# EAGLE library part 65100516121 (library Wurth_Connectors_WR-USB)
WR-COM Mini USB 2.0 Type B SMT Horizontal 5 Contacts Kind Properties Durability:1 500 Mating cycles Quality Class:1 500 Mating cycles Connector Type:Mini USB Gender:Receptacle Type:Horizontal General Information Operating Temperature:-40up to +105 °C Compliance:RoHS Electrical Properties IR 1:1A Working Voltage:30V (AC) Withstanding Voltage:750V (AC) Contact Resistance:20 mΩ Material Properties Insulator Material:LCP Insulator Flammability Rating:UL94 V-0 Color:Black Cover Material:Brass Cover Plating:Nickel Contact Material:Copper Alloy Contact Plating: Selective Gold Contact Type:Stamped Shielding Material:Brass Shielding Plating:Nickel <https://www.we-online.com/catalog/media/o33005v209%20Family_WR-COM_65100516121.jpg> Details see: https://www.we-online.com/catalog/en/COM_SMT_MINI_TYPE_B_HORIZONTAL/ Updated by Yingchun, Shan 2020-01-16 2020 (C) Würth Elektronik
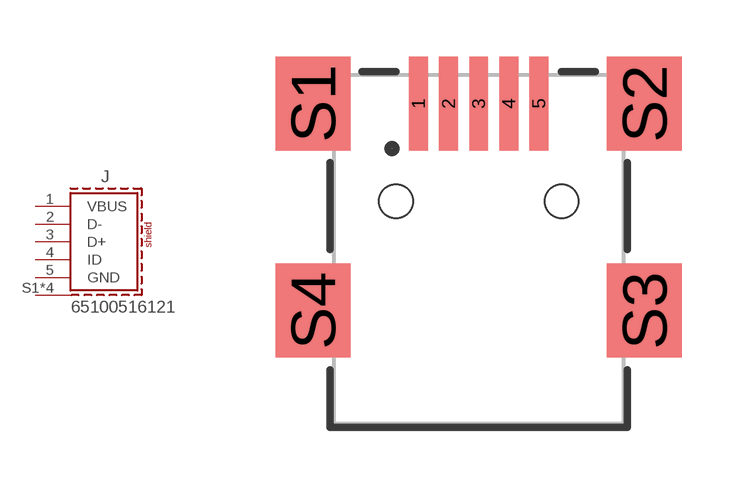
[diagram p15: symbol with the pads of 65100516121; footprint 65100516121]

Designator prefix J

## 65100516121 (APPLICATION: Micro USB 2.0; DATASHEET-URL: https://www.we-online.com/catalog/datasheet/65100516121.pdf; GERDER: Receptacle; INTERFACE-TYPE: Type B; IR1: 1.0A; MOUNT: SMT; PACKAGING: Tape and Reel & Mylar; PART-NUMBER: 65100516121; PINS: 5; TYPE: Horizontal; WORKING-VOLTAGE: 30V(AC))  [65100516121]
1  VBUS  pas
2  D-  pas
3  D+  pas
4  ID  pas
5  GND  pas
S1  SHIELD  pas
S2  SHIELD  pas
S3  SHIELD  pas
S4  SHIELD  pas

## Footprint 65100516121 (pad centres in mm)
WR-COM Mini USB 2.0 Type B SMT Horizontal 5 Contacts
smd 0.5 x 2.5: 1 -1.6,3.875; 2 -0.8,3.875; 3 0,3.875; 4 0.8,3.875; 5 1.6,3.875
smd 2 x 2.5: S1 -4.4,3.875; S2 4.4,3.875; S3 4.4,-1.625; S4 -4.4,-1.625
hole 0.9 at -2.2,1.275
hole 0.9 at 2.2,1.275